# EAGLE library part CY7C1049CV33 (library memory-sram)
4-Mbit (512K x 8) Static RAM Source: CYPRESS cy7c1049cv33_8.pdf
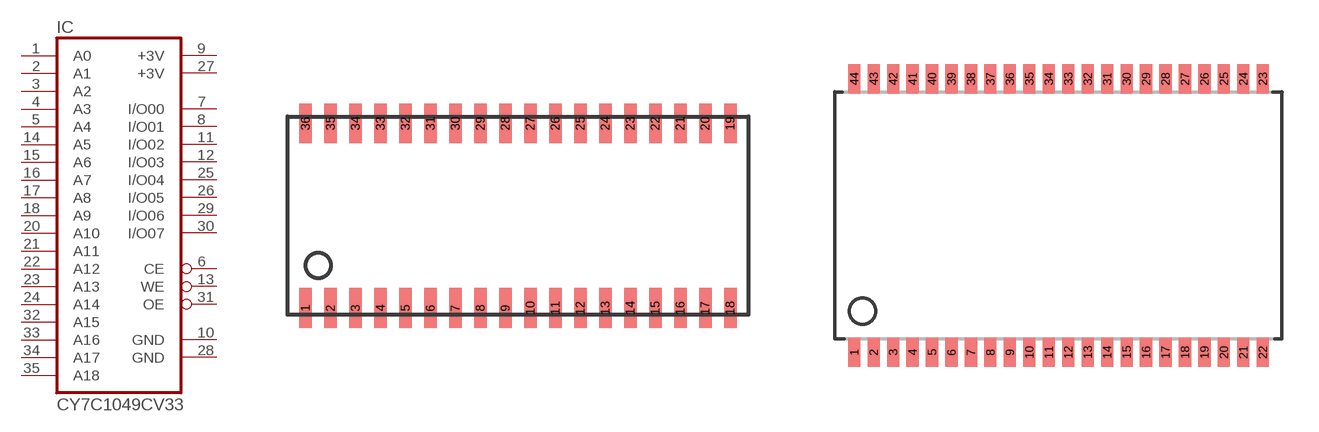
[diagram p22: symbol with the pads of SOJV36-400; footprints SOJV36-400, TSOPII-Z44]

Designator prefix IC

## CY7C1049CV33  [SOJV36-400]
1  A0  in
2  A1  in
3  A2  in
4  A3  in
5  A4  in
6  CE  in
7  I/O00
8  I/O01
9  +3V  pwr
10  GND  pwr
11  I/O02
12  I/O03
13  WE  in
14  A5  in
15  A6  in
16  A7  in
17  A8  in
18  A9  in
20  A10  in
21  A11  in
22  A12  in
23  A13  in
24  A14  in
25  I/O04
26  I/O05
27  +3V  pwr
28  GND  pwr
29  I/O06
30  I/O07
31  OE  in
32  A15  in
33  A16  in
34  A17  in
35  A18  in

## CY7C1049CV33T  [TSOPII-Z44]
3  A0  in
4  A1  in
5  A2  in
6  A3  in
7  A4  in
8  CE  in
9  I/O00
10  I/O01
11  +3V  pwr
12  GND  pwr
13  I/O02
14  I/O03
15  WE  in
16  A5  in
17  A6  in
18  A7  in
19  A8  in
20  A9  in
26  A10  in
27  A11  in
28  A12  in
29  A13  in
30  A14  in
31  I/O04
32  I/O05
33  +3V  pwr
34  GND  pwr
35  I/O06
36  I/O07
37  OE  in
38  A15  in
39  A16  in
40  A17  in
41  A18  in

## Footprint SOJV36-400 (pad centres in mm)
36-Lead (400-Mil) Molded SOJ V36 Source: CYPRESS cy7c1049cv33_8.pdf
smd 0.635 x 2.032: 1 -10.795,-4.699; 2 -9.525,-4.699; 3 -8.255,-4.699; 4 -6.985,-4.699; 5 -5.715,-4.699; 6 -4.445,-4.699; 7 -3.175,-4.699; 8 -1.905,-4.699; 9 -0.635,-4.699; 10 0.635,-4.699; 11 1.905,-4.699; 12 3.175,-4.699; 13 4.445,-4.699; 14 5.715,-4.699; 15 6.985,-4.699; 16 8.255,-4.699; 17 9.525,-4.699; 18 10.795,-4.699; 19 10.795,4.699; 20 9.525,4.699; 21 8.255,4.699; 22 6.985,4.699; 23 5.715,4.699; 24 4.445,4.699; 25 3.175,4.699; 26 1.905,4.699; 27 0.635,4.699; 28 -0.635,4.699; 29 -1.905,4.699; 30 -3.175,4.699; 31 -4.445,4.699; 32 -5.715,4.699; 33 -6.985,4.699; 34 -8.255,4.699; 35 -9.525,4.699; 36 -10.795,4.699

## Footprint TSOPII-Z44 (pad centres in mm)
44 PIN TSOP II Z44 Source: CYPRESS cy7c1049cv33_8.pdf
smd 0.5 x 1.2: 1 -8.4,-5.627; 2 -7.6,-5.627; 3 -6.8,-5.627; 4 -6,-5.627; 5 -5.2,-5.627; 6 -4.4,-5.627; 7 -3.6,-5.627; 8 -2.8,-5.627; 9 -2,-5.627; 10 -1.2,-5.627; 11 -0.4,-5.627; 12 0.4,-5.627; 13 1.2,-5.627; 14 2,-5.627; 15 2.8,-5.627; 16 3.6,-5.627; 17 4.4,-5.627; 18 5.2,-5.627; 19 6,-5.627; 20 6.8,-5.627; 21 7.6,-5.627; 22 8.4,-5.627; 23 8.4,5.627; 24 7.6,5.627; 25 6.8,5.627; 26 6,5.627; 27 5.2,5.627; 28 4.4,5.627; 29 3.6,5.627; 30 2.8,5.627; 31 2,5.627; 32 1.2,5.627; 33 0.4,5.627; 34 -0.4,5.627; 35 -1.2,5.627; 36 -2,5.627; 37 -2.8,5.627; 38 -3.6,5.627; 39 -4.4,5.627; 40 -5.2,5.627; 41 -6,5.627; 42 -6.8,5.627; 43 -7.6,5.627; 44 -8.4,5.627